# Altium footprint library SON125P500X300X100-8N.PcbLib: 1 footprints
Each footprint in its own frame and in the unit in brackets; x right, y up, seen from the top. Pads: shape width x height; smd on the part's side, far side on the other; paste and mask are expansions set on the pad; w line width, h text height; cw(c..) or ccw(c..) is an arc to the next point about the centre after c.
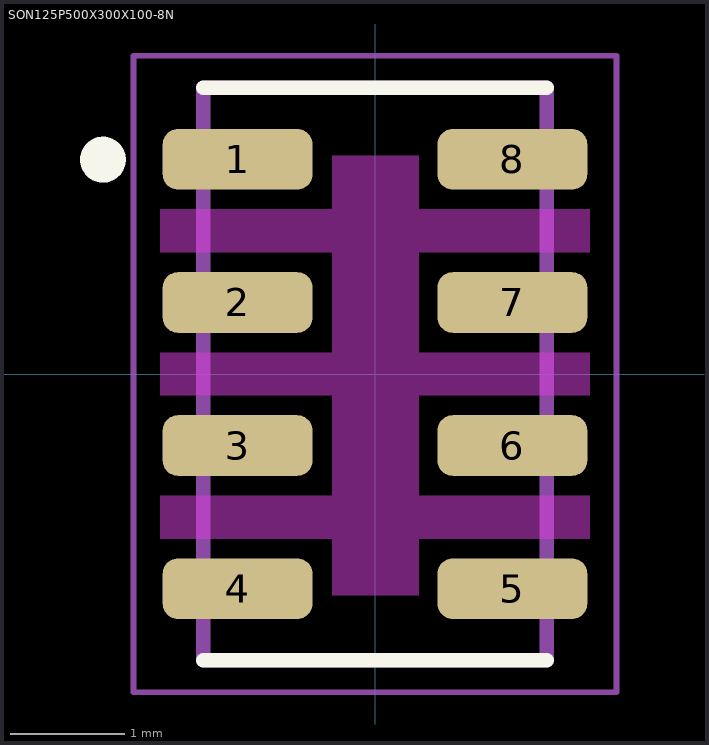
[diagram p0: the footprint, top view; thin cyan lines are the x and y axes]

## SON125P500X300X100-8N [mm]
pads (8):
  rrect50% 1.31x0.53 smd: 1(-1.2,1.875) 2(-1.2,0.625) 3(-1.2,-0.625) 4(-1.2,-1.875) 5(1.2,-1.875) 6(1.2,-0.625) 7(1.2,0.625) 8(1.2,1.875)
Top Overlay:
  circle w0.2: c-2.377,1.873 r0.1
  lines w0.127: -1.5,-2.5 1.5,-2.5 ; -1.5,2.5 1.5,2.5
Keep-Out Layer:
  region: 1.875,1.064 -1.878,1.064 -1.878,1.438 1.875,1.438
  region: 1.875,-0.188 -1.878,-0.188 -1.878,0.188 1.875,0.188
  region: 1.875,-1.44 -1.878,-1.44 -1.878,-1.062 1.875,-1.062
  region: 0.381,-1.935 -0.375,-1.935 -0.375,1.905 0.381,1.905
  region: 0.381,-1.935 -0.375,-1.935 -0.375,1.905 0.381,1.905
  region: 1.875,1.063 -1.875,1.063 -1.875,1.438 1.875,1.438
  region: 0.381,-1.935 -0.375,-1.935 -0.375,1.905 0.381,1.905
  region: 1.875,-0.188 -1.878,-0.188 -1.878,0.188 1.875,0.188
  region: 1.875,-1.44 -1.878,-1.44 -1.878,-1.062 1.875,-1.062
Mechanical 13:
  lines w0.127: -1.5,-2.5 -1.5,2.5 1.5,2.5 1.5,-2.5 -1.5,-2.5
Mechanical 15:
  lines w0.05: -2.11,-2.78 -2.11,2.78 2.11,2.78 2.11,-2.78 -2.11,-2.78
3D body "step_temp.STEP": height 1.1, standoff 0, extent -1.5,-2.5 1.5,2.5